# EAGLE library part 54819-0519 (library con-usb)
USB - OTG, miniUSB Type B, Molex
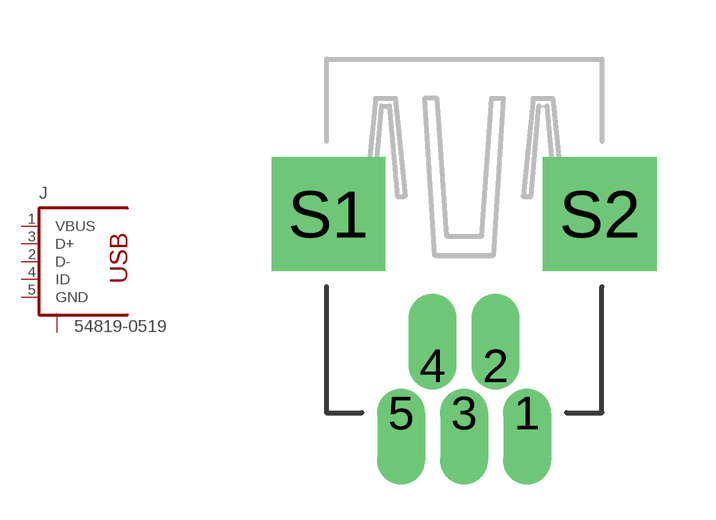
[diagram p3: symbol with the pads of 54819-0519; footprint 54819-0519]

Designator prefix J

## 54819-0519  [54819-0519]
1  VBUS  pas
2  D-  pas
3  D+  pas
4  ID  pas
5  GND  pas
S1  S  pas
S2  S  pas

## Footprint 54819-0519 (pad centres in mm)
USB - OTG, miniUSB Type B Molex
drill 0.711 offset: 1 1.6,0; 2 0.8,1.2; 3 0,0; 4 -0.8,1.2; 5 -1.6,0
drill 1.93 square: S1 -3.45,5.05; S2 3.45,5.05